# EAGLE library part 2616-1109/020-000 (library con-wago_2616)
Stand: 01.01.2017. Die jeweils aktuellen Daten zu diesem Artikel finden Sie in unserem Produktkatalog, den Sie unter www.wago.com einsehen können. As of: 01/01/2017. Please find the newest data for this article in our product catalogue, which can be viewed under www.wago.com.
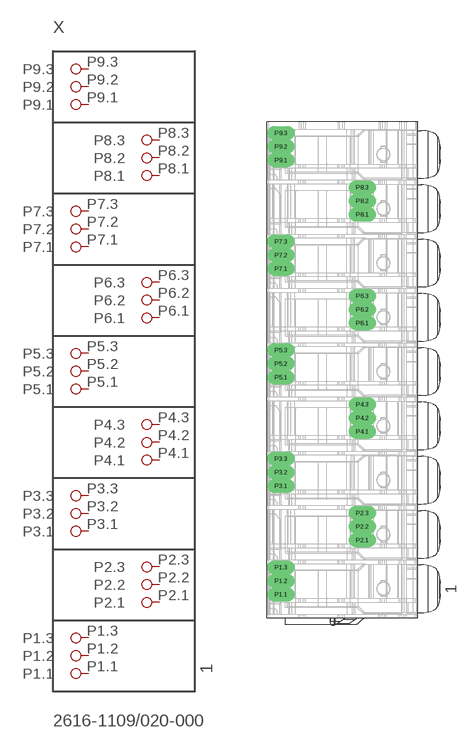
[diagram p8: symbol with the pads of P-2616-1109/020-000; footprint P-2616-1109/020-000]

Designator prefix X

## 2616-1109/020-000  [P-2616-1109/020-000]
P1.1  P1.1
P1.2  P1.2
P1.3  P1.3
P2.1  P2.1
P2.2  P2.2
P2.3  P2.3
P3.1  P3.1
P3.2  P3.2
P3.3  P3.3
P4.1  P4.1
P4.2  P4.2
P4.3  P4.3
P5.1  P5.1
P5.2  P5.2
P5.3  P5.3
P6.1  P6.1
P6.2  P6.2
P6.3  P6.3
P7.1  P7.1
P7.2  P7.2
P7.3  P7.3
P8.1  P8.1
P8.2  P8.2
P8.3  P8.3
P9.1  P9.1
P9.2  P9.2
P9.3  P9.3

## Footprint P-2616-1109/020-000 (pad centres in mm)
drill 1.7 long: P1.1 -13.4,-40.7; P1.2 -13.4,-38.2; P1.3 -13.4,-35.7; P2.1 1.6,-30.7; P2.2 1.6,-28.2; P2.3 1.6,-25.7; P3.1 -13.4,-20.7; P3.2 -13.4,-18.2; P3.3 -13.4,-15.7; P4.1 1.6,-10.7; P4.2 1.6,-8.2; P4.3 1.6,-5.7; P5.1 -13.4,-0.7; P5.2 -13.4,1.8; P5.3 -13.4,4.3; P6.1 1.6,9.3; P6.2 1.6,11.8; P6.3 1.6,14.3; P7.1 -13.4,19.3; P7.2 -13.4,21.8; P7.3 -13.4,24.3; P8.1 1.6,29.3; P8.2 1.6,31.8; P8.3 1.6,34.3; P9.1 -13.4,39.3; P9.2 -13.4,41.8; P9.3 -13.4,44.3